# EAGLE library part BMC050 (library microbuilder)
BMC050 - Electronic Compass (Three Axis Magnetic Field Sensor and Accelerometer) Support SPI and I2C interfaces Acceleration Range: +/-2g,+/-4g, +/-8g, +/-16g,
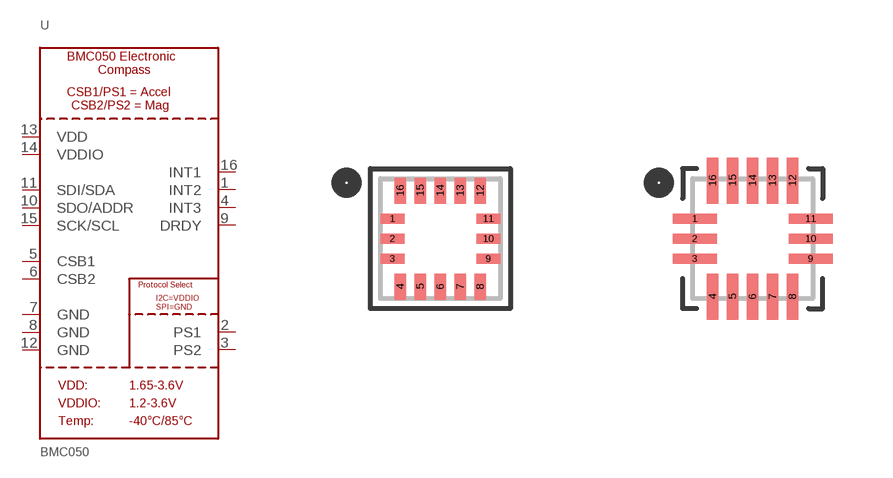
[diagram p212: symbol with the pads of BMC050; footprints BMC050, BMC050_EXTENDED]

Designator prefix U

## BMC050  [BMC050]
1  INT2  out
2  PS1  in
3  PS2  in
4  INT3  out
5  CSB1  in
6  CSB2  in
7  GND  sup
8  GND  sup
9  DRDY  out
10  SDO/ADDR  out
11  SDI/SDA
12  GND  sup
13  VDD  sup
14  VDDIO  sup
15  SCK/SCL  in
16  INT1  out

## BMC050EXT  [BMC050_EXTENDED]
Pads as for BMC050

## Footprint BMC050 (pad centres in mm)
smd 0.6 x 0.25: 1 -1.2,0.5; 2 -1.2,0; 3 -1.2,-0.5; 9 1.2,-0.5; 10 1.2,0; 11 1.2,0.5
smd 0.28 x 0.65: 4 -1,-1.2; 5 -0.5,-1.2; 6 0,-1.2; 7 0.5,-1.2; 8 1,-1.2; 12 1,1.2; 13 0.5,1.2; 14 0,1.2; 15 -0.5,1.2; 16 -1,1.2

## Footprint BMC050_EXTENDED (pad centres in mm)
smd 1.1 x 0.25: 1 -1.45,0.5; 2 -1.45,0; 3 -1.45,-0.5; 9 1.45,-0.5; 10 1.45,0; 11 1.45,0.5
smd 0.28 x 1.15: 4 -1,-1.45; 5 -0.5,-1.45; 6 0,-1.45; 7 0.5,-1.45; 8 1,-1.45; 12 1,1.45; 13 0.5,1.45; 14 0,1.45; 15 -0.5,1.45; 16 -1,1.45